# Altium schematic symbol library 2020-03-28_05-44-17.SchLib: 2 symbols
Pins are listed as number, name and electrical type; pins without a type are passive.

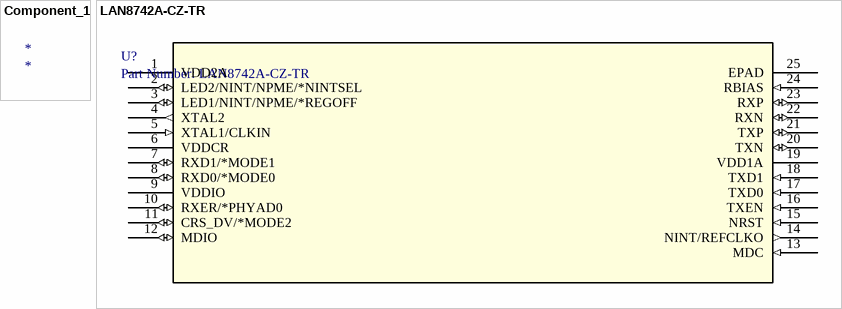
[diagram p0: symbols Component_1 to LAN8742A-CZ-TR]

## Component_1
designator *

## LAN8742A-CZ-TR
designator U?, comment Part Number: LAN8742A-CZ-TR
No Description Available; Vendor: Microchip; Built_By: EMA_Jessica; Manufacturer_Part_Number: LAN8742A-CZ-TR; Copyright: Copyright (C) 2018 Accelerated Designs. All rights reserved; RefDes: RefDes; Type: DEV; Value: Value
footprint SQFN24_4X4MC
pins: 1 VDD2A (power), 2 LED2/NINT/NPME/*NINTSEL (io), 3 LED1/NINT/NPME/*REGOFF (io), 4 XTAL2 (out), 5 XTAL1/CLKIN (in), 6 VDDCR (power), 7 RXD1/*MODE1 (io), 8 RXD0/*MODE0 (io), 9 VDDIO (power), 10 RXER/*PHYAD0 (io), 11 CRS_DV/*MODE2 (io), 12 MDIO (io), 13 MDC (in), 14 NINT/REFCLKO (out), 15 NRST (in), 16 TXEN (in), 17 TXD0 (in), 18 TXD1 (in), 19 VDD1A (power), 20 TXN (io), 21 TXP (io), 22 RXN (io), 23 RXP (io), 24 RBIAS (in), 25 EPAD